# EAGLE library part THVD2450DR (library THVD2450DR)
+/-70-V fault-protected 3.3-V to 5-V RS-485 transceiver with IEC ESD Source: Datasheet <http://www.ti.com/lit/gpn/THVD2450>
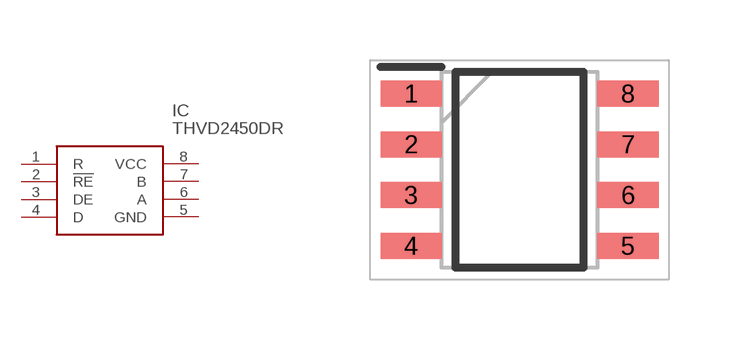
[diagram p0: symbol with the pads of SOIC127P600X175-8N; footprint SOIC127P600X175-8N]

Designator prefix IC

## THVD2450DR (Description: +/-70-V fault-protected 3.3-V to 5-V RS-485 transceiver with IEC ESD; Height: 1.75mm; Manufacturer_Name: Texas Instruments; Manufacturer_Part_Number: THVD2450DR; Mouser_Part_Number: 595-THVD2450DR; Mouser_Price-Stock: https://www.mouser.co.uk/ProductDetail/Texas-Instruments/THVD2450DR?qs=%252B6g0mu59x7KnRZ8zf%2FOjqQ%3D%3D)  [SOIC127P600X175-8N]
1  R
2  !RE
3  DE
4  D
5  GND
6  A
7  B
8  VCC

## Footprint SOIC127P600X175-8N (pad centres in mm)
SOIC - 1.75 mm max height,.
smd 1.528 x 0.65: 1 -2.711,1.905; 2 -2.711,0.635; 3 -2.711,-0.635; 4 -2.711,-1.905; 5 2.711,-1.905; 6 2.711,-0.635; 7 2.711,0.635; 8 2.711,1.905